# Altium schematic symbol library hyperRAM.SchLib: 2 symbols
Pins are listed as number, name and electrical type; pins without a type are passive.

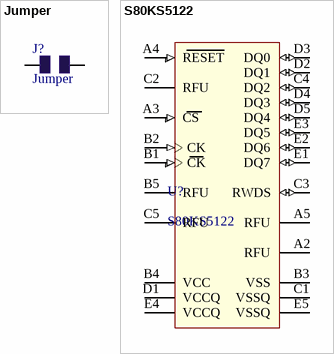
[diagram p0: symbols Jumper to S80KS5122]

## Jumper
designator J?
footprint Jumper
pins: 1, 2

## S80KS5122
designator U?
512 Mb: HYPERRAM™ self-refresh dynamic / RAM (DRAM) with HYPERBUS™ interface / 1.8 V; ComponentLink1Description: New link; ComponentLink1URL: https://www.mouser.it/ProductDetail/Infineon-Technologies/S80KS5122GABHV020?qs=doiCPypUmgEJDMhxR%2Fbnog%3D%3D
footprint FBGA24_A-130 (BGA, 24-Balls, Body 8x6mm, Pitch 1mm, A1 missing)
pins: A2 RFU, A3 CS (in), A4 RESET (in), A5 RFU, B1 CK (in), B2 CK (in), B3 VSS, B4 VCC, B5 RFU, C1 VSSQ, C2 RFU, C3 RWDS (io), C4 DQ2 (io), C5 RFU, D1 VCCQ, D2 DQ1 (io), D3 DQ0 (io), D4 DQ3 (io), D5 DQ4 (io), E1 DQ7 (io), E2 DQ6 (io), E3 DQ5 (io), E4 VCCQ, E5 VSSQ